# Altium schematic symbol library Cooler.SchLib: 3 symbols
Pins are listed as number, name and electrical type; pins without a type are passive.

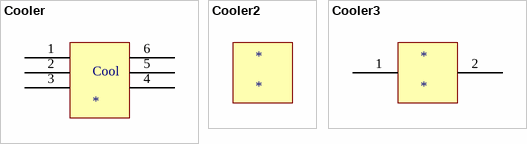
[diagram p0: symbols Cooler to Cooler3]

## Cooler
designator Cool
footprint PCBComponent_1 - duplicate
pins: 1, 2, 3, 4, 5, 6

## Cooler2
designator *
footprint PCBComponent_1

## Cooler3
designator *
pins: 1, 2